# Altium schematic symbol library inductor_dblib.SchLib: 1 symbol
Pins are listed as number, name and electrical type; pins without a type are passive.

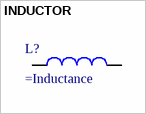
[diagram p0: symbol INDUCTOR]

## INDUCTOR
designator L?
=Description
pins: 1, 2